# Altium schematic symbol library ANT_1001312.Schlib: 1 symbol
Pins are listed as number, name and electrical type; pins without a type are passive.

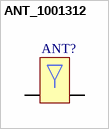
[diagram p0: symbol ANT_1001312]

## ANT_1001312
designator ANT?  (value not drawn)
2.4 GHz Ceramic Antenna
pins: 1 inp, 2 inp